# Altium footprint library PCB - POWER - R78C3.3-1.0.PCBLIB: 1 footprints
Each footprint in its own frame and in the unit in brackets; x right, y up, seen from the top. Pads: shape width x height; smd on the part's side, far side on the other; paste and mask are expansions set on the pad; w line width, h text height; cw(c..) or ccw(c..) is an arc to the next point about the centre after c.
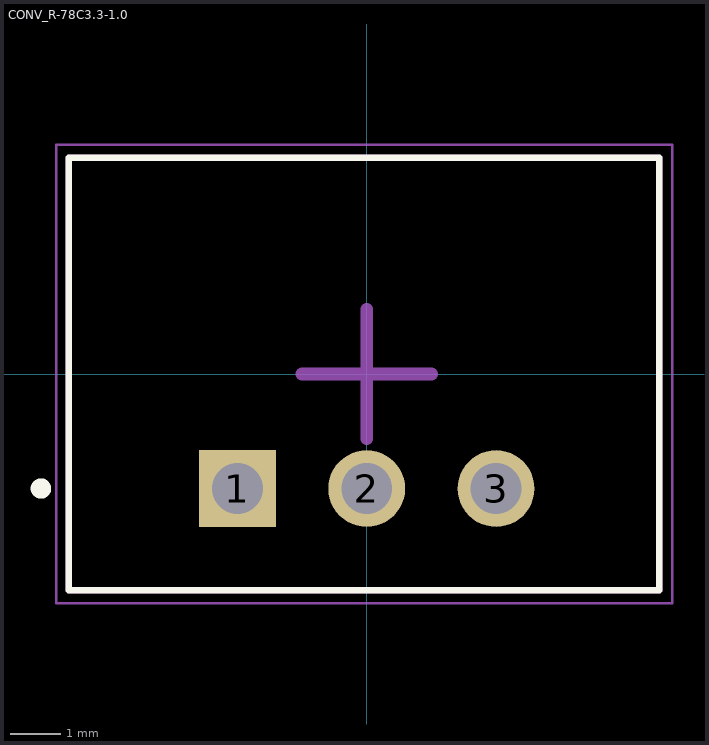
[diagram p0: the footprint, top view; thin cyan lines are the x and y axes]

## CONV_R-78C3.3-1.0 [mm]
pads (3):
  rect 1.508x1.508 hole 1: 1(-2.54,-2.25)
  round 1.508 hole 1: 2(0,-2.25) 3(2.54,-2.25)
Top Overlay:
  circle w0.2: c-6.4,-2.25 r0.1
  lines w0.127: -5.85,-4.25 -5.85,4.25 5.75,4.25 5.75,-4.25 -5.85,-4.25
Top Assembly:
  lines w0.127: -5.85,-4.25 5.75,-4.25 5.75,4.25 -5.85,4.25 -5.85,-4.25
Top Courtyard:
  lines w0.05: -6.1,-4.5 6,-4.5 6,4.5 -6.1,4.5 -6.1,-4.5
Top Designator:
  text ".Designator" at 1.143,1.905 h1.52
Top Component Center:
  lines w0.254: -1.27,0 1.27,0 ; 0,-1.27 0,1.27
3D body "R-78C-1.0.STEP": height 9.9, standoff -4.6, extent -5.8,-4.26 5.8,4.25